# Altium schematic symbol library Diode_Diodes_Inc._1N4148WSF-7_eec.SchLib: 1 symbol
Pins are listed as number, name and electrical type; pins without a type are passive.

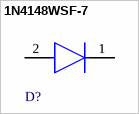
[diagram p0: symbol 1N4148WSF-7]

## 1N4148WSF-7
designator D?  (value not drawn)
footprint Diodes_Inc._SOD323F_MFG
pins: 1 C, 2 A